# EAGLE library part CRAZYREMOTE_MOLEX-89400-0720 (library CrazyRemote)
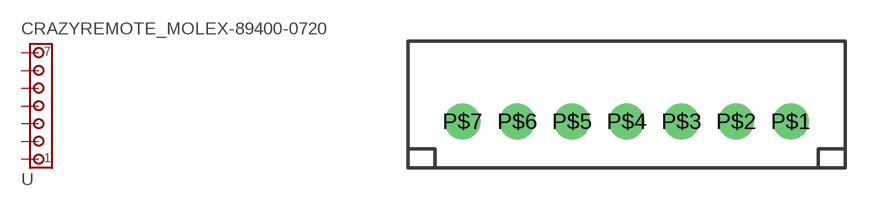
[diagram p5: symbol with the pads of CRAZYREMOTE_8940-0720; footprint CRAZYREMOTE_8940-0720]

Designator prefix -

## CRAZYREMOTE_MOLEX-89400-0720  [CRAZYREMOTE_8940-0720]
P$1  1  pas
P$2  2  pas
P$3  3  pas
P$4  4  pas
P$5  5  pas
P$6  6  pas
P$7  7  pas

## Footprint CRAZYREMOTE_8940-0720 (pad centres in mm)
drill 0.8: P$1 6,0; P$2 4,0; P$3 2,0; P$4 0,0; P$5 -2,0; P$6 -4,0; P$7 -6,0